# Altium footprint library WKO472MCPEJ0KR.PcbLib: 1 footprints
Each footprint in its own frame and in the unit in brackets; x right, y up, seen from the top. Pads: shape width x height; smd on the part's side, far side on the other; paste and mask are expansions set on the pad; w line width, h text height; cw(c..) or ccw(c..) is an arc to the next point about the centre after c.
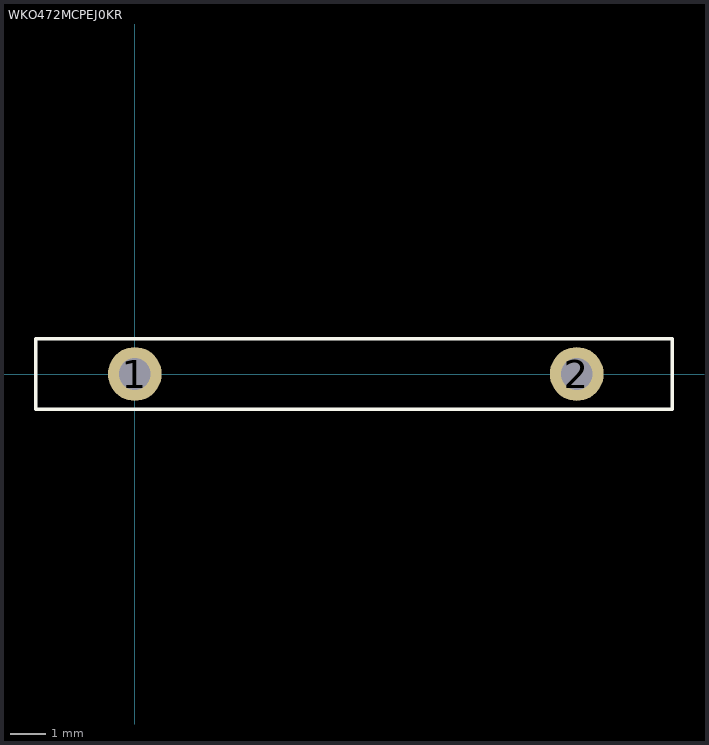
[diagram p0: the footprint, top view; thin cyan lines are the x and y axes]

## WKO472MCPEJ0KR [mil]
pads (2):
  round 60 hole 35.43: 1(0,0) 2(492.13,0)
Top Overlay:
  lines w3.94: -110.24,-39.37 598.43,-39.37 598.43,39.37 -110.24,39.37 -110.24,-39.37